# Altium footprint library FPGA_plug_a3pe600.PcbLib: 1 footprints
Each footprint in its own frame and in the unit in brackets; x right, y up, seen from the top. Pads: shape width x height; smd on the part's side, far side on the other; paste and mask are expansions set on the pad; w line width, h text height; cw(c..) or ccw(c..) is an arc to the next point about the centre after c.
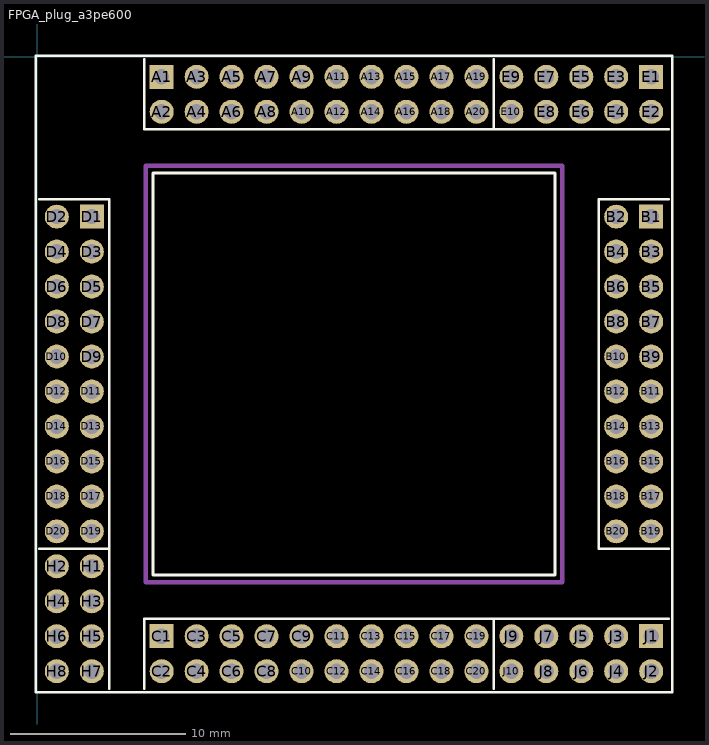
[diagram p0: the footprint, top view; thin cyan lines are the x and y axes]

## FPGA_plug_a3pe600 [mil]
pads (108):
  rect 54x54 hole 34: A1(280,-45) B1(1382.36,-359.96) C1(280,-1304.84) D1(122.52,-359.96) E1(1382.36,-45) J1(1382.36,-1304.84)
  round 54 hole 34: A2(280,-123.74) A3(358.74,-45) A4(358.74,-123.74) A5(437.48,-45) A6(437.48,-123.74) A7(516.22,-45) A8(516.22,-123.74) A9(594.96,-45) A10(594.96,-123.74) A11(673.7,-45) A12(673.7,-123.74) A13(752.44,-45) A14(752.44,-123.74) A15(831.18,-45) A16(831.18,-123.74) A17(909.92,-45) A18(909.92,-123.74) A19(988.66,-45) A20(988.66,-123.74) B2(1303.62,-359.96) B3(1382.36,-438.7) B4(1303.62,-438.7) B5(1382.36,-517.44) B6(1303.62,-517.44) B7(1382.36,-596.18) B8(1303.62,-596.18) B9(1382.36,-674.92) B10(1303.62,-674.92) B11(1382.36,-753.66) B12(1303.62,-753.66) B13(1382.36,-832.4) B14(1303.62,-832.4) B15(1382.36,-911.14) B16(1303.62,-911.14) B17(1382.36,-989.88) B18(1303.62,-989.88) B19(1382.36,-1068.62) B20(1303.62,-1068.62) C2(280,-1383.58) C3(358.74,-1304.84) C4(358.74,-1383.58) C5(437.48,-1304.84) C6(437.48,-1383.58) C7(516.22,-1304.84) C8(516.22,-1383.58) C9(594.96,-1304.84) C10(594.96,-1383.58) C11(673.7,-1304.84) C12(673.7,-1383.58) C13(752.44,-1304.84) C14(752.44,-1383.58) C15(831.18,-1304.84) C16(831.18,-1383.58) C17(909.92,-1304.84) C18(909.92,-1383.58) C19(988.66,-1304.84) C20(988.66,-1383.58) D2(43.78,-359.96) D3(122.52,-438.7) D4(43.78,-438.7) D5(122.52,-517.44) D6(43.78,-517.44) D7(122.52,-596.18) D8(43.78,-596.18) D9(122.52,-674.92) D10(43.78,-674.92) D11(122.52,-753.66) D12(43.78,-753.66) D13(122.52,-832.4) D14(43.78,-832.4) D15(122.52,-911.14) D16(43.78,-911.14) D17(122.52,-989.88) D18(43.78,-989.88) D19(122.52,-1068.62) D20(43.78,-1068.62) E2(1382.36,-123.74) E3(1303.62,-45) E4(1303.62,-123.74) E5(1224.88,-45) E6(1224.88,-123.74) E7(1146.14,-45) E8(1146.14,-123.74) E9(1067.4,-45) E10(1067.4,-123.74) H1(122.52,-1147.36) H2(43.78,-1147.36) H3(122.52,-1226.1) H4(43.78,-1226.1) H5(122.52,-1304.84) H6(43.78,-1304.84) H7(122.52,-1383.58) H8(43.78,-1383.58) J2(1382.36,-1383.58) J3(1303.62,-1304.84) J4(1303.62,-1383.58) J5(1224.88,-1304.84) J6(1224.88,-1383.58) J7(1146.14,-1304.84) J8(1146.14,-1383.58) J9(1067.4,-1304.84) J10(1067.4,-1383.58)
Top Overlay:
  lines w6: 4.41,-1107.99 161.89,-1107.99 ; 4.41,-320.59 161.89,-320.59 161.89,-1422.95 ; 240.63,-1422.95 240.63,-1265.47 1028.03,-1265.47 ; 240.63,-5.63 240.63,-163.11 1028.03,-163.11 ; 1421.73,-1265.47 1028.03,-1265.47 ; 1421.73,-1107.99 1264.25,-1107.99 1264.25,-320.59 1421.73,-320.59 ; 1421.73,-163.11 1028.03,-163.11 ; 1028.03,-1265.47 1028.03,-1422.95 1028.03,-1265.47 ; 1028.03,-163.11 1028.03,-5.63 1028.03,-163.11 ; -3.46,-1430.83 1429.6,-1430.83 1429.6,2.24 -3.46,2.24 -3.46,-1430.83 ; 260.31,-1167.05 260.31,-261.54 1165.83,-261.54 1165.83,-1167.05 260.31,-1167.05
Mechanical 1:
  lines w10: 244,-1183 244,-245 1182,-245 1182,-1183 244,-1183
3D body: height 250, standoff 0, extent 0,-1430 1425,0